# Altium footprint library MODULE_SEN-09836.PcbLib: 1 footprints
Each footprint in its own frame and in the unit in brackets; x right, y up, seen from the top. Pads: shape width x height; smd on the part's side, far side on the other; paste and mask are expansions set on the pad; w line width, h text height; cw(c..) or ccw(c..) is an arc to the next point about the centre after c.
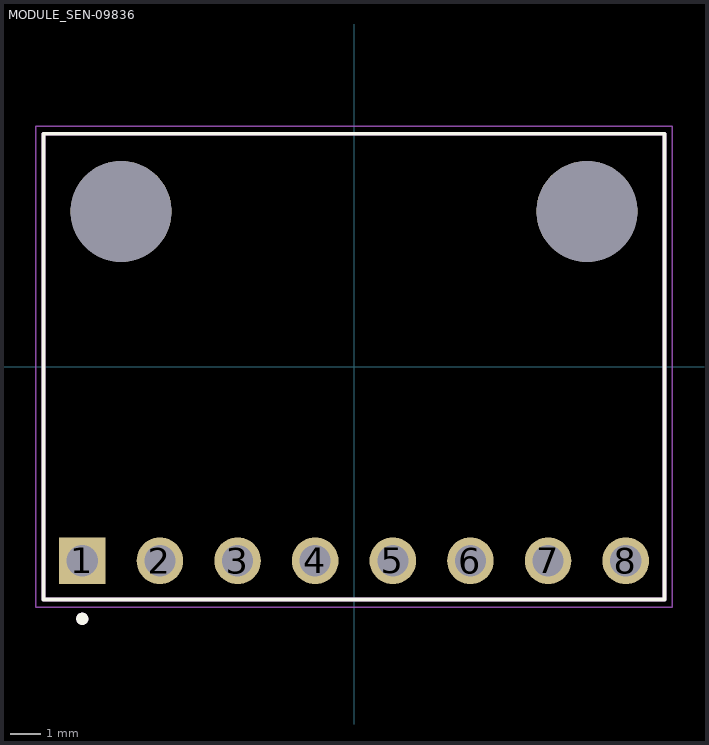
[diagram p0: the footprint, top view; thin cyan lines are the x and y axes]

## MODULE_SEN-09836 [mil]
pads (10):
  rect 60x60 / inner round 60 / far side rect 60x60 hole 40: 1(-350,-250)
  round 60 hole 40: 2(-250,-250) 3(-150,-250) 4(-50,-250) 5(50,-250) 6(150,-250) 7(250,-250) 8(350,-250)
  round 130 hole 130 unplated: ""(-300,200) ""(300,200)
Top Overlay:
  circle w7.87: c-350,-324.8 r3.94
  lines w5: -400,-300 400,-300 400,300 -400,300 -400,-300
Assembly Top:
  circle w7.87: c-350,-324.8 r3.94
  lines w5: -400,-300 400,-300 400,300 -400,300 -400,-300
Courtyard Top:
  lines w1.97: -409.84,-309.84 409.84,-309.84 409.84,309.84 -409.84,309.84 -409.84,-309.84
3D body "step_temp.STEP": height 39.37, standoff -61.81, extent -400,-300 400,300